# EAGLE library part ATMEGA_3208_4808_32PIN_TQFP (library miller)
ATmega 3208/4808 32-pin package
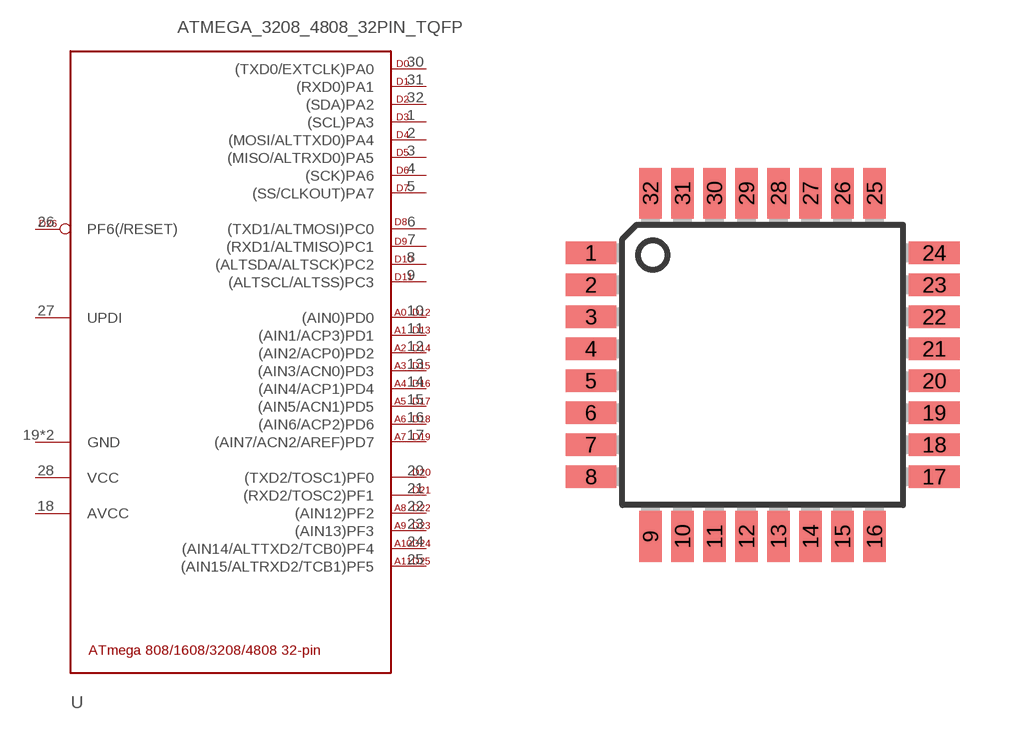
[diagram p41: symbol with the pads of TQFP32-08; footprint TQFP32-08]

Designator prefix -

## ATMEGA_3208_4808_32PIN_TQFPTQFP  [TQFP32-08]
1  (SCL)PA3
2  (MOSI/ALTTXD0)PA4
3  (MISO/ALTRXD0)PA5
4  (SCK)PA6
5  (SS/CLKOUT)PA7
6  (TXD1/ALTMOSI)PC0
7  (RXD1/ALTMISO)PC1
8  (ALTSDA/ALTSCK)PC2
9  (ALTSCL/ALTSS)PC3
10  (AIN0)PD0
11  (AIN1/ACP3)PD1
12  (AIN2/ACP0)PD2
13  (AIN3/ACN0)PD3
14  (AIN4/ACP1)PD4
15  (AIN5/ACN1)PD5
16  (AIN6/ACP2)PD6
17  (AIN7/ACN2/AREF)PD7
18  AVCC
19  GND
20  (TXD2/TOSC1)PF0
21  (RXD2/TOSC2)PF1
22  (AIN12)PF2
23  (AIN13)PF3
24  (AIN14/ALTTXD2/TCB0)PF4
25  (AIN15/ALTRXD2/TCB1)PF5
26  PF6(/RESET)
27  UPDI
28  VCC
29  GND
30  (TXD0/EXTCLK)PA0
31  (RXD0)PA1
32  (SDA)PA2

## Footprint TQFP32-08 (pad centres in mm)
Thin Plasic Quad Flat Package Grid 0.8 mm
smd 1.27 x 0.559: 1 -4.293,2.8; 2 -4.293,2; 3 -4.293,1.2; 4 -4.293,0.4; 5 -4.293,-0.4; 6 -4.293,-1.2; 7 -4.293,-2; 8 -4.293,-2.8; 17 4.293,-2.8; 18 4.293,-2; 19 4.293,-1.2; 20 4.293,-0.4; 21 4.293,0.4; 22 4.293,1.2; 23 4.293,2; 24 4.293,2.8
smd 0.559 x 1.27: 9 -2.8,-4.293; 10 -2,-4.293; 11 -1.2,-4.293; 12 -0.4,-4.293; 13 0.4,-4.293; 14 1.2,-4.293; 15 2,-4.293; 16 2.8,-4.293; 25 2.8,4.293; 26 2,4.293; 27 1.2,4.293; 28 0.4,4.293; 29 -0.4,4.293; 30 -1.2,4.293; 31 -2,4.293; 32 -2.8,4.293